# Altium footprint library Molex42820-4224.PcbLib: 1 footprints
Each footprint in its own frame and in the unit in brackets; x right, y up, seen from the top. Pads: shape width x height; smd on the part's side, far side on the other; paste and mask are expansions set on the pad; w line width, h text height; cw(c..) or ccw(c..) is an arc to the next point about the centre after c.
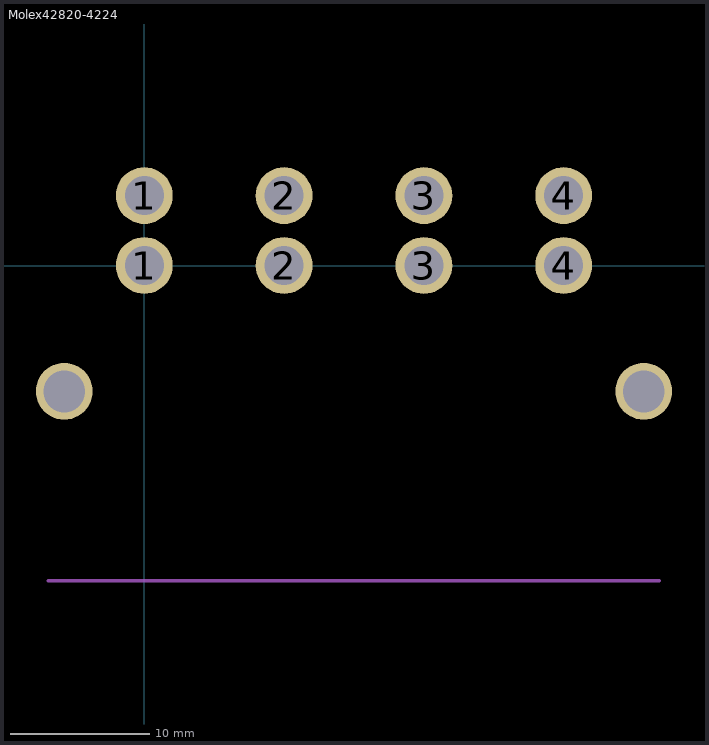
[diagram p0: the footprint, top view; thin cyan lines are the x and y axes]

## Molex42820-4224 [mm] "Molex42820-4224"
pads (10):
  round 4.064 hole 2.8: 1(0,0) 1(0,5) 2(10,0) 2(10,5) 3(20,0) 3(20,5) 4(30,0) 4(30,5)
  round 4.064 hole 3 unplated: ""(-5.73,-9) ""(35.73,-9)
Mechanical 1:
  lines w0.254: -6.86,-22.555 36.833,-22.555
3D body: height 0.25, standoff 0, extent 15.494,-2.54 15.494,-2.54
3D body "428204224.stp": height 15, standoff -3.45, extent -6.924,-22.619 36.896,5.981